# Altium schematic symbol library PCA9536D,118.Schlib: 1 symbol
Pins are listed as number, name and electrical type; pins without a type are passive.

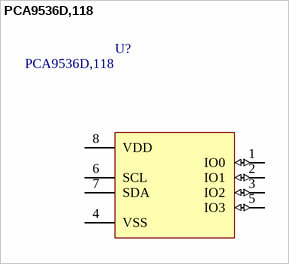
[diagram p0: symbol PCA9536D,118]

## PCA9536D,118
designator U?
Interface - I/O Expanders I2C/SMBUS 4BIT GPIO
pins: 1 IO0 (io), 2 IO1 (io), 3 IO2 (io), 4 VSS (power), 5 IO3 (io), 6 SCL (oc), 7 SDA (oc), 8 VDD (power)